# EAGLE library part LIS2DW12 (library chips_old)
ultra low power 3 axis accelerometer
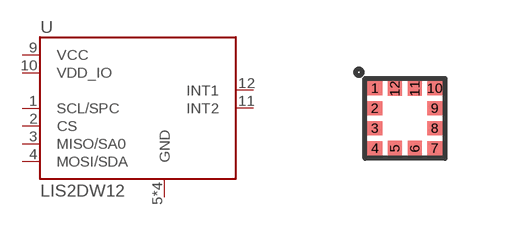
[diagram p81: symbol with the pads of LGA-12; footprint LGA-12]

Designator prefix U

## LIS2DW12 (DIGIKEY: 497-17718-6-ND; MANUFACTURER: STMicroelectronics; MOUSER: 511-LIS2DW12TR; MPN: LIS2DW12TR)  [LGA-12]
1  SCL/SPC
2  CS
3  MISO/SA0
4  MOSI/SDA
5  GND
6  GND
7  GND
8  GND
9  VCC
10  VDD_IO
11  INT2
12  INT1

## Footprint LGA-12 (pad centres in mm)
smd 0.375 x 0.35: 1 -0.75,0.75; 2 -0.75,0.25; 3 -0.75,-0.25; 4 -0.75,-0.75; 7 0.75,-0.75; 8 0.75,-0.25; 9 0.75,0.25; 10 0.75,0.75
smd 0.35 x 0.375: 5 -0.25,-0.75; 6 0.25,-0.75; 11 0.25,0.75; 12 -0.25,0.75